# EAGLE library part TS5A3159 (library m-pad)
Ti's TS5A3159 1 Ohm single-pole double-throw (SPDT) analog switch Description: The TS5A3159 is a single-pole double-throw (SPDT) analog switch that is designed to operate from 1.65 V to 5.5 V. The device offers a low ON-state resistance and an excellent ON-resistance, matching with the break-before-make feature to prevent signal distortion during the transferring of a signal from one channel to another. The device has an excellent total harmonic distortion (THD) performance and consumes very low power. These features make this device suitable for portable audio applications. Features: Specified Break-Before-Make Switching Low ON-State Resistance (1 ) Control Inputs Are 5-V Tolerant Low Charge Injection Excellent ON-Resistance Matching Low Total Harmonic Distortion 1.65-V to 5.5-V Single-Supply Operation Latch-Up Performance Exceeds 100 mA Per JESD 78, Class II ESD Performance Tested Per JESD 22 - 2000-V Human-Body Model (A114-B, Class II) - 1000-V Charged-Device Model (C101) Applications: Cell Phones PDAs Portable Instrumentation Please send any comments to: messi@users.sourceforge.net
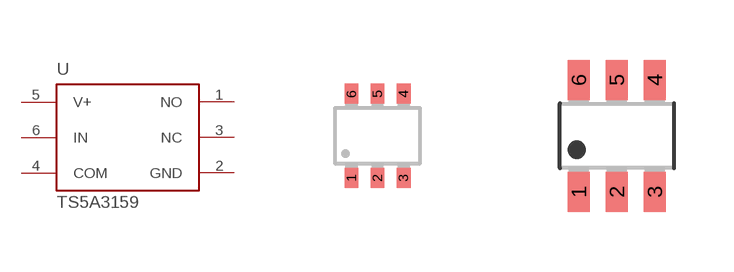
[diagram p179: symbol with the pads of SC-70-6; footprints SC-70-6, SOT23-6L]

Designator prefix U

## TS5A3159-DCK  [SC-70-6]
1  NO
2  GND  pwr
3  NC
4  COM
5  V+  pwr
6  IN  in

## TS5A3159-DBV  [SOT23-6L]
Pads as for SC-70-6

## Footprint SC-70-6 (pad centres in mm)
Texas Instruments Package SC-70-6 (-DCK)
smd 0.35 x 0.5: 1 -0.65,-1.05; 2 0,-1.05; 3 0.65,-1.05; 4 0.65,1.05; 5 0,1.05; 6 -0.65,1.05

## Footprint SOT23-6L (pad centres in mm)
Small Outline Transistor
smd 0.55 x 1: 1 -0.95,-1.4; 2 0,-1.4; 3 0.95,-1.4; 4 0.95,1.4; 5 0,1.4; 6 -0.95,1.4